# Altium integrated library National Semiconductor Interface.IntLib: 1433 symbols (part 31 of 51)
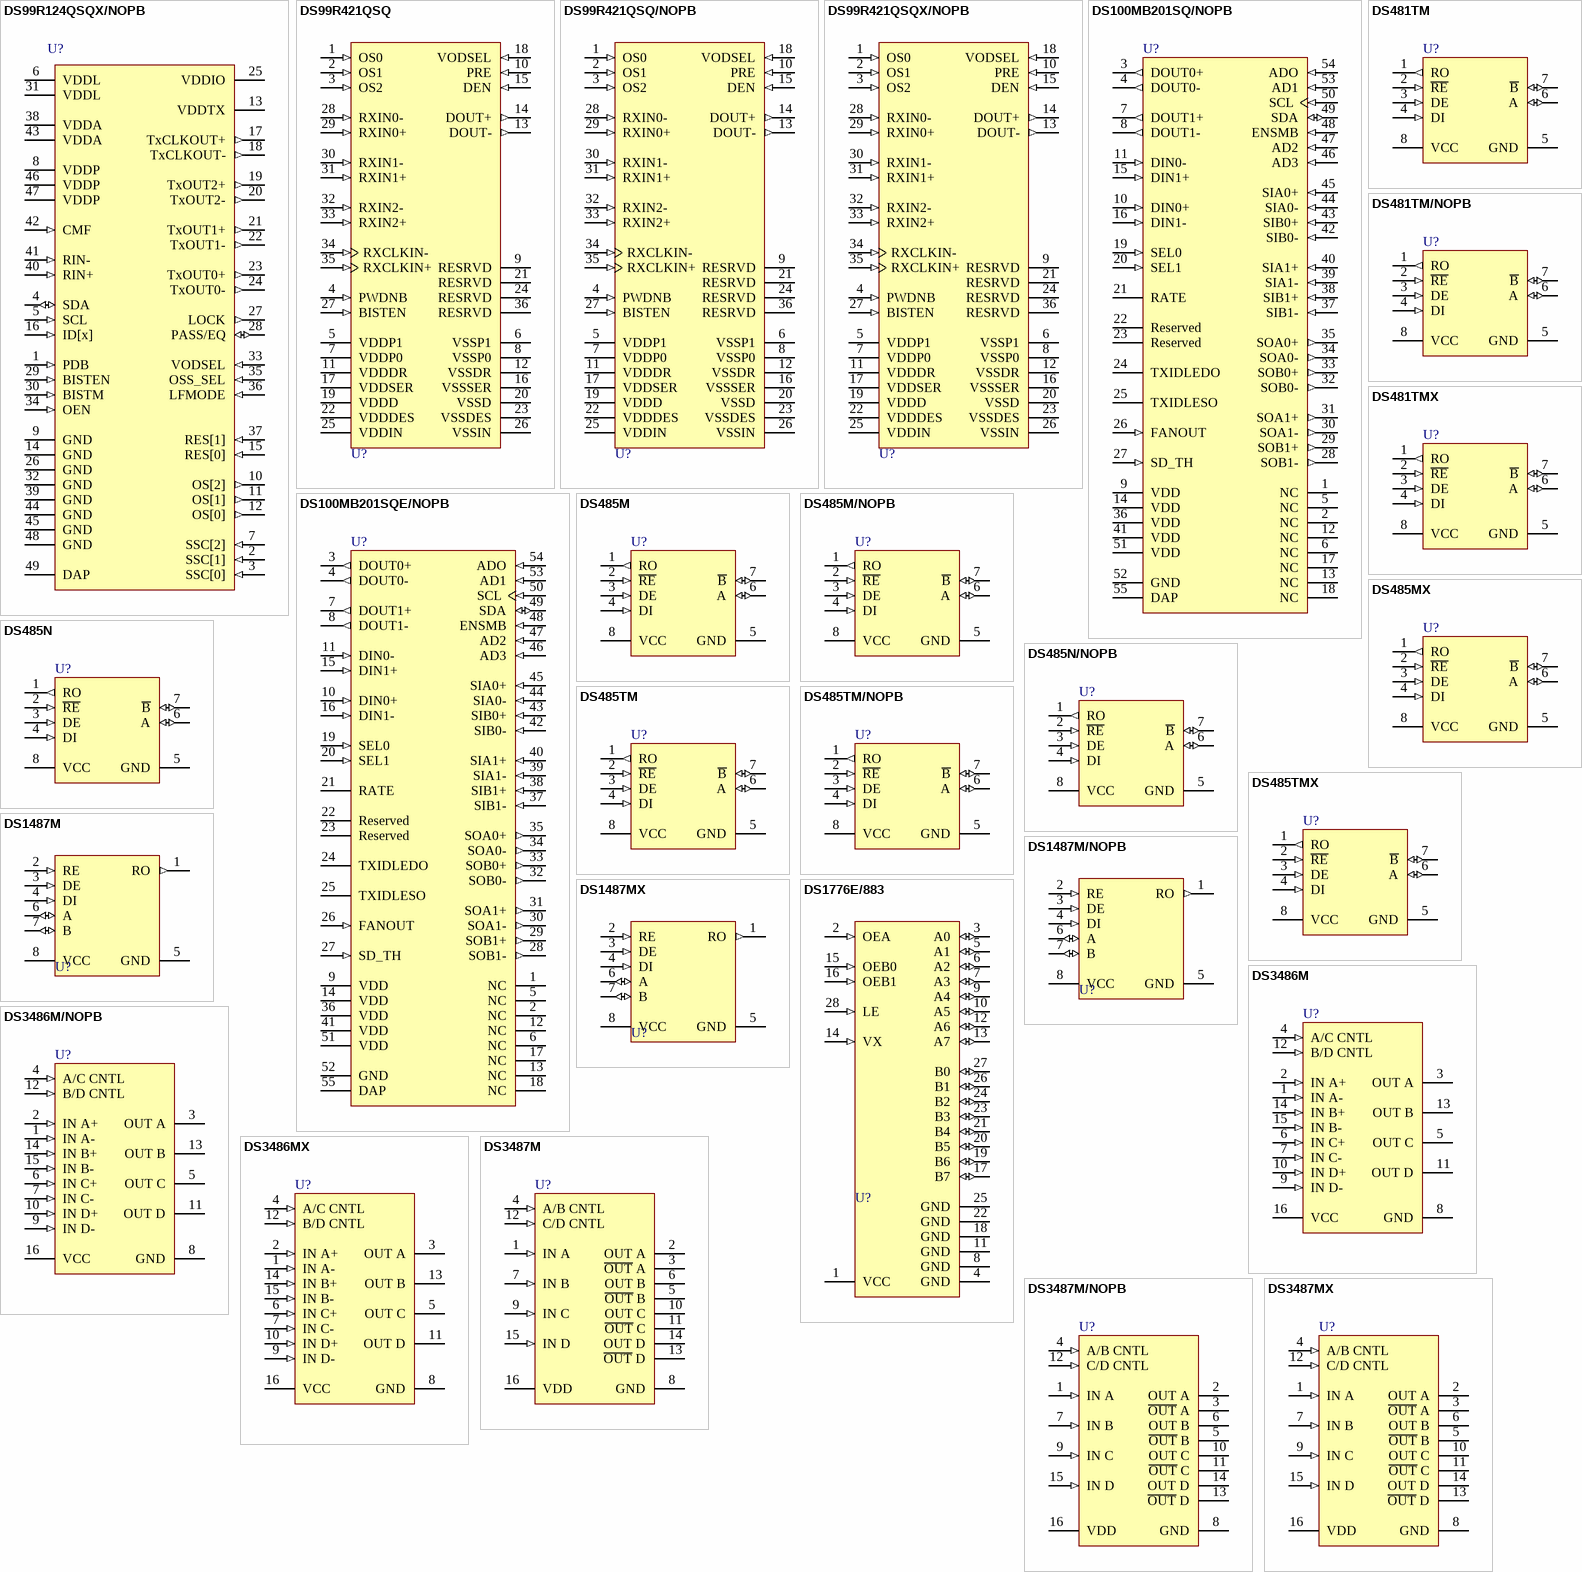
[diagram p154: symbols DS99R124QSQX/NOPB to DS3487MX]

## DS1487MX
designator U?
Low Power RS-485/1/4 Unit Load Multipoint Transceiver, 8-pin Narrow SOIC; PartNumber: DS1487MX; Manufacturer: National Semiconductor; PackageTopMarking: NSZXTT*DS148*7M; PowerWise: N; CompType: Interface IC; High-Reliability: Y; DatasheetVersion: Jul-1998; PackageVersion: revM, May-2009; PackageReference: M08A; PackageDescription: SOIC Narrow, 4.9 x 3.9 x 1.45mm, 8 Lead, 1.27mm Pitch; RoHS: N; PinCount: 8; Code_JEDEC: MS-012-AA; Code_IPC: SOIC127P600-8; ComponentLink1Description: Manufacturer URL; ComponentLink1URL: http://www.national.com/; ComponentLink2Description: DS1487 Datasheet; ComponentLink2URL: http://www.national.com/ds/DS/DS1487.pdf; ComponentLink3Description: DS1487 Web Page; ComponentLink3URL: http://www.national.com/pf/DS/DS1487.html; ComponentLink4Description: M08A Package Page; ComponentLink4URL: http://www.national.com/packaging/folders/m08a.html
footprint M08A_N (SOIC, 8-Leads, Body 4.9x3.9mm, Pitch 1.27mm, IPC Medium Density)
footprint M08A_L (SOIC, 8-Leads, Body 4.9x3.9mm, Pitch 1.27mm, IPC High Density)
footprint M08A_M (SOIC, 8-Leads, Body 4.9x3.9mm, Pitch 1.27mm, IPC Low Density)
pins: 1 RO (out), 2 RE (in), 3 DE (in), 4 DI (in), 5 GND (power), 6 A (io), 7 B (io), 8 VCC (power)

## DS1776E/883
designator U?
Pi-Bus Transceiver, 28-pin LCC; PartNumber: DS1776E/883; Manufacturer: National Semiconductor; PackageTopMarking: NSZSSXXYYA*DS1776E*/883 Q*5962-*9231701M3A; PowerWise: N; CompType: Interface IC; High-Reliability: Y; DatasheetVersion: Jan-1996; PackageVersion: revG, Apr-2004; PackageReference: E28A; PackageDescription: Leadless Chip Carrier, .450 x .450 x .069in Body, Type C, 28 Terminal; RoHS: N; PinCount: 28; Code_JEDEC: MS-004-CC; ComponentLink1Description: Manufacturer URL; ComponentLink1URL: http://www.national.com/; ComponentLink2Description: DS1776 Datasheet; ComponentLink2URL: http://www.national.com/ds/DS/DS1776.pdf; ComponentLink3Description: DS1776 Web Page; ComponentLink3URL: http://www.national.com/pf/DS/DS1776.html; ComponentLink4Description: E28A Package Page; ComponentLink4URL: http://www.national.com/packaging/folders/e28a.html
footprint E28A_N (Leadless Chip Carrier, 28-Leads, Body 11.4x11.4mm, Pitch 1.27mm, IPC Medium Density)
footprint E28A_L (Leadless Chip Carrier, 28-Leads, Body 11.4x11.4mm, Pitch 1.27mm, IPC High Density)
footprint E28A_M (Leadless Chip Carrier, 28-Leads, Body 11.4x11.4mm, Pitch 1.27mm, IPC Low Density)
pins: 1 VCC (power), 2 OEA (in), 3 A0 (io), 4 GND (power), 5 A1 (io), 6 A2 (io), 7 A3 (io), 8 GND (power), 9 A4 (io), 10 A5 (io), 11 GND (power), 12 A6 (io), 13 A7 (io), 14 VX (in), 15 OEB0 (in), 16 OEB1 (in), 17 B7 (io), 18 GND (power), 19 B6 (io), 20 B5 (io), 21 B4 (io), 22 GND (power), 23 B3 (io), 24 B2 (io), 25 GND (power), 26 B1 (io), 27 B0 (io), 28 LE (in)

## DS3486M
designator U?
Quad RS-422, RS-423 Line Receiver, 16-pin Narrow SOIC; PartNumber: DS3486M; Manufacturer: National Semiconductor; PackageTopMarking: NSUZXYTTE#*DS3486M; PowerWise: N; CompType: Interface IC; High-Reliability: Y; DatasheetVersion: Apr-2007; PackageVersion: revJ, Aug-1995; PackageReference: M16A; PackageDescription: Molded Package, SO, .150in Wide, 16 Lead; RoHS: N; PinCount: 16; Code_JEDEC: MS-012-AC; Code_IPC: SOIC127P600-16; ComponentLink1Description: Manufacturer URL; ComponentLink1URL: http://www.national.com/; ComponentLink2Description: DS3486 Datasheet; ComponentLink2URL: http://www.national.com/ds/DS/DS3486.pdf; ComponentLink3Description: DS3486 Web Page; ComponentLink3URL: http://www.national.com/pf/DS/DS3486.html; ComponentLink4Description: M16A Package Page; ComponentLink4URL: http://www.national.com/packaging/folders/m16a.html
footprint M16A_N (SOIC, 16-Leads, Body 9.9x3.9mm, Pitch 1.27mm, IPC Medium Density)
footprint M16A_L (SOIC, 16-Leads, Body 9.9x3.9mm, Pitch 1.27mm, IPC High Density)
footprint M16A_M (SOIC, 16-Leads, Body 9.9x3.9mm, Pitch 1.27mm, IPC Low Density)
pins: 1 IN A- (in), 2 IN A+ (in), 3 OUT A (hiz), 4 A/C CNTL (in), 5 OUT C (hiz), 6 IN C+ (in), 7 IN C- (in), 8 GND (power), 9 IN D- (in), 10 IN D+ (in), 11 OUT D (hiz), 12 B/D CNTL (in), 13 OUT B (hiz), 14 IN B+ (in), 15 IN B- (in), 16 VCC (power)

## DS3486M/NOPB
designator U?
Quad RS-422, RS-423 Line Receiver, 16-pin Narrow SOIC, Pb-Free; PartNumber: DS3486M/NOPB; Manufacturer: National Semiconductor; PackageTopMarking: NSUZXYTTE#*DS3486M; PowerWise: N; CompType: Interface IC; High-Reliability: Y; DatasheetVersion: Apr-2007; PackageVersion: revJ, Aug-1995; PackageReference: M16A; PackageDescription: Molded Package, SO, .150in Wide, 16 Lead; RoHS: Y; PinCount: 16; Code_JEDEC: MS-012-AC; Code_IPC: SOIC127P600-16; ComponentLink1Description: Manufacturer URL; ComponentLink1URL: http://www.national.com/; ComponentLink2Description: DS3486 Datasheet; ComponentLink2URL: http://www.national.com/ds/DS/DS3486.pdf; ComponentLink3Description: DS3486 Web Page; ComponentLink3URL: http://www.national.com/pf/DS/DS3486.html; ComponentLink4Description: M16A Package Page; ComponentLink4URL: http://www.national.com/packaging/folders/m16a.html
footprint M16A_N (SOIC, 16-Leads, Body 9.9x3.9mm, Pitch 1.27mm, IPC Medium Density)
footprint M16A_L (SOIC, 16-Leads, Body 9.9x3.9mm, Pitch 1.27mm, IPC High Density)
footprint M16A_M (SOIC, 16-Leads, Body 9.9x3.9mm, Pitch 1.27mm, IPC Low Density)
pins: 1 IN A- (in), 2 IN A+ (in), 3 OUT A (hiz), 4 A/C CNTL (in), 5 OUT C (hiz), 6 IN C+ (in), 7 IN C- (in), 8 GND (power), 9 IN D- (in), 10 IN D+ (in), 11 OUT D (hiz), 12 B/D CNTL (in), 13 OUT B (hiz), 14 IN B+ (in), 15 IN B- (in), 16 VCC (power)

## DS3486MX
designator U?
Quad RS-422, RS-423 Line Receiver, 16-pin Narrow SOIC; PartNumber: DS3486MX; Manufacturer: National Semiconductor; PackageTopMarking: NSUZXYTTE#*DS3486M; PowerWise: N; CompType: Interface IC; High-Reliability: Y; DatasheetVersion: Apr-2007; PackageVersion: revJ, Aug-1995; PackageReference: M16A; PackageDescription: Molded Package, SO, .150in Wide, 16 Lead; RoHS: N; PinCount: 16; Code_JEDEC: MS-012-AC; Code_IPC: SOIC127P600-16; ComponentLink1Description: Manufacturer URL; ComponentLink1URL: http://www.national.com/; ComponentLink2Description: DS3486 Datasheet; ComponentLink2URL: http://www.national.com/ds/DS/DS3486.pdf; ComponentLink3Description: DS3486 Web Page; ComponentLink3URL: http://www.national.com/pf/DS/DS3486.html; ComponentLink4Description: M16A Package Page; ComponentLink4URL: http://www.national.com/packaging/folders/m16a.html
footprint M16A_N (SOIC, 16-Leads, Body 9.9x3.9mm, Pitch 1.27mm, IPC Medium Density)
footprint M16A_L (SOIC, 16-Leads, Body 9.9x3.9mm, Pitch 1.27mm, IPC High Density)
footprint M16A_M (SOIC, 16-Leads, Body 9.9x3.9mm, Pitch 1.27mm, IPC Low Density)
pins: 1 IN A- (in), 2 IN A+ (in), 3 OUT A (hiz), 4 A/C CNTL (in), 5 OUT C (hiz), 6 IN C+ (in), 7 IN C- (in), 8 GND (power), 9 IN D- (in), 10 IN D+ (in), 11 OUT D (hiz), 12 B/D CNTL (in), 13 OUT B (hiz), 14 IN B+ (in), 15 IN B- (in), 16 VCC (power)

## DS3487M
designator U?
Quad Tri-State Line Driver, 16-pin Narrow SOIC; PartNumber: DS3487M; Manufacturer: National Semiconductor; PackageTopMarking: NSUZXYTTE#*DS3487M; PowerWise: N; CompType: Interface IC; High-Reliability: Y; DatasheetVersion: May-1998; PackageVersion: revJ, Aug-1995; PackageReference: M16A; PackageDescription: Molded Package, SO, .150in Wide, 16 Lead; RoHS: N; PinCount: 16; Code_JEDEC: MS-012-AC; Code_IPC: SOIC127P600-16; ComponentLink1Description: Manufacturer URL; ComponentLink1URL: http://www.national.com/; ComponentLink2Description: DS3487 Datasheet; ComponentLink2URL: http://www.national.com/ds/DS/DS3487.pdf; ComponentLink3Description: DS3487 Web Page; ComponentLink3URL: http://www.national.com/pf/DS/DS3487.html; ComponentLink4Description: M16A Package Page; ComponentLink4URL: http://www.national.com/packaging/folders/m16a.html
footprint M16A_N (SOIC, 16-Leads, Body 9.9x3.9mm, Pitch 1.27mm, IPC Medium Density)
footprint M16A_L (SOIC, 16-Leads, Body 9.9x3.9mm, Pitch 1.27mm, IPC High Density)
footprint M16A_M (SOIC, 16-Leads, Body 9.9x3.9mm, Pitch 1.27mm, IPC Low Density)
pins: 1 IN A (in), 2 OUT A (hiz), 3 ~{OUT} A (hiz), 4 A/B CNTL (in), 5 ~{OUT} B (hiz), 6 OUT B (hiz), 7 IN B (in), 8 GND (power), 9 IN C (in), 10 OUT C (hiz), 11 ~{OUT} C (hiz), 12 C/D CNTL (in), 13 ~{OUT} D (hiz), 14 OUT D (hiz), 15 IN D (in), 16 VDD (power)

## DS3487M/NOPB
designator U?
Quad Tri-State Line Driver, 16-pin Narrow SOIC, Pb-Free; PartNumber: DS3487M/NOPB; Manufacturer: National Semiconductor; PackageTopMarking: NSUZXYTTE#*DS3487M; PowerWise: N; CompType: Interface IC; High-Reliability: Y; DatasheetVersion: May-1998; PackageVersion: revJ, Aug-1995; PackageReference: M16A; PackageDescription: Molded Package, SO, .150in Wide, 16 Lead; RoHS: Y; PinCount: 16; Code_JEDEC: MS-012-AC; Code_IPC: SOIC127P600-16; ComponentLink1Description: Manufacturer URL; ComponentLink1URL: http://www.national.com/; ComponentLink2Description: DS3487 Datasheet; ComponentLink2URL: http://www.national.com/ds/DS/DS3487.pdf; ComponentLink3Description: DS3487 Web Page; ComponentLink3URL: http://www.national.com/pf/DS/DS3487.html; ComponentLink4Description: M16A Package Page; ComponentLink4URL: http://www.national.com/packaging/folders/m16a.html
footprint M16A_N (SOIC, 16-Leads, Body 9.9x3.9mm, Pitch 1.27mm, IPC Medium Density)
footprint M16A_L (SOIC, 16-Leads, Body 9.9x3.9mm, Pitch 1.27mm, IPC High Density)
footprint M16A_M (SOIC, 16-Leads, Body 9.9x3.9mm, Pitch 1.27mm, IPC Low Density)
pins: 1 IN A (in), 2 OUT A (hiz), 3 ~{OUT} A (hiz), 4 A/B CNTL (in), 5 ~{OUT} B (hiz), 6 OUT B (hiz), 7 IN B (in), 8 GND (power), 9 IN C (in), 10 OUT C (hiz), 11 ~{OUT} C (hiz), 12 C/D CNTL (in), 13 ~{OUT} D (hiz), 14 OUT D (hiz), 15 IN D (in), 16 VDD (power)

## DS3487MX
designator U?
Quad Tri-State Line Driver, 16-pin Narrow SOIC; PartNumber: DS3487MX; Manufacturer: National Semiconductor; PackageTopMarking: NSUZXYTTE#*DS3487M; PowerWise: N; CompType: Interface IC; High-Reliability: Y; DatasheetVersion: May-1998; PackageVersion: revJ, Aug-1995; PackageReference: M16A; PackageDescription: Molded Package, SO, .150in Wide, 16 Lead; RoHS: N; PinCount: 16; Code_JEDEC: MS-012-AC; Code_IPC: SOIC127P600-16; ComponentLink1Description: Manufacturer URL; ComponentLink1URL: http://www.national.com/; ComponentLink2Description: DS3487 Datasheet; ComponentLink2URL: http://www.national.com/ds/DS/DS3487.pdf; ComponentLink3Description: DS3487 Web Page; ComponentLink3URL: http://www.national.com/pf/DS/DS3487.html; ComponentLink4Description: M16A Package Page; ComponentLink4URL: http://www.national.com/packaging/folders/m16a.html
footprint M16A_N (SOIC, 16-Leads, Body 9.9x3.9mm, Pitch 1.27mm, IPC Medium Density)
footprint M16A_L (SOIC, 16-Leads, Body 9.9x3.9mm, Pitch 1.27mm, IPC High Density)
footprint M16A_M (SOIC, 16-Leads, Body 9.9x3.9mm, Pitch 1.27mm, IPC Low Density)
pins: 1 IN A (in), 2 OUT A (hiz), 3 ~{OUT} A (hiz), 4 A/B CNTL (in), 5 ~{OUT} B (hiz), 6 OUT B (hiz), 7 IN B (in), 8 GND (power), 9 IN C (in), 10 OUT C (hiz), 11 ~{OUT} C (hiz), 12 C/D CNTL (in), 13 ~{OUT} D (hiz), 14 OUT D (hiz), 15 IN D (in), 16 VDD (power)

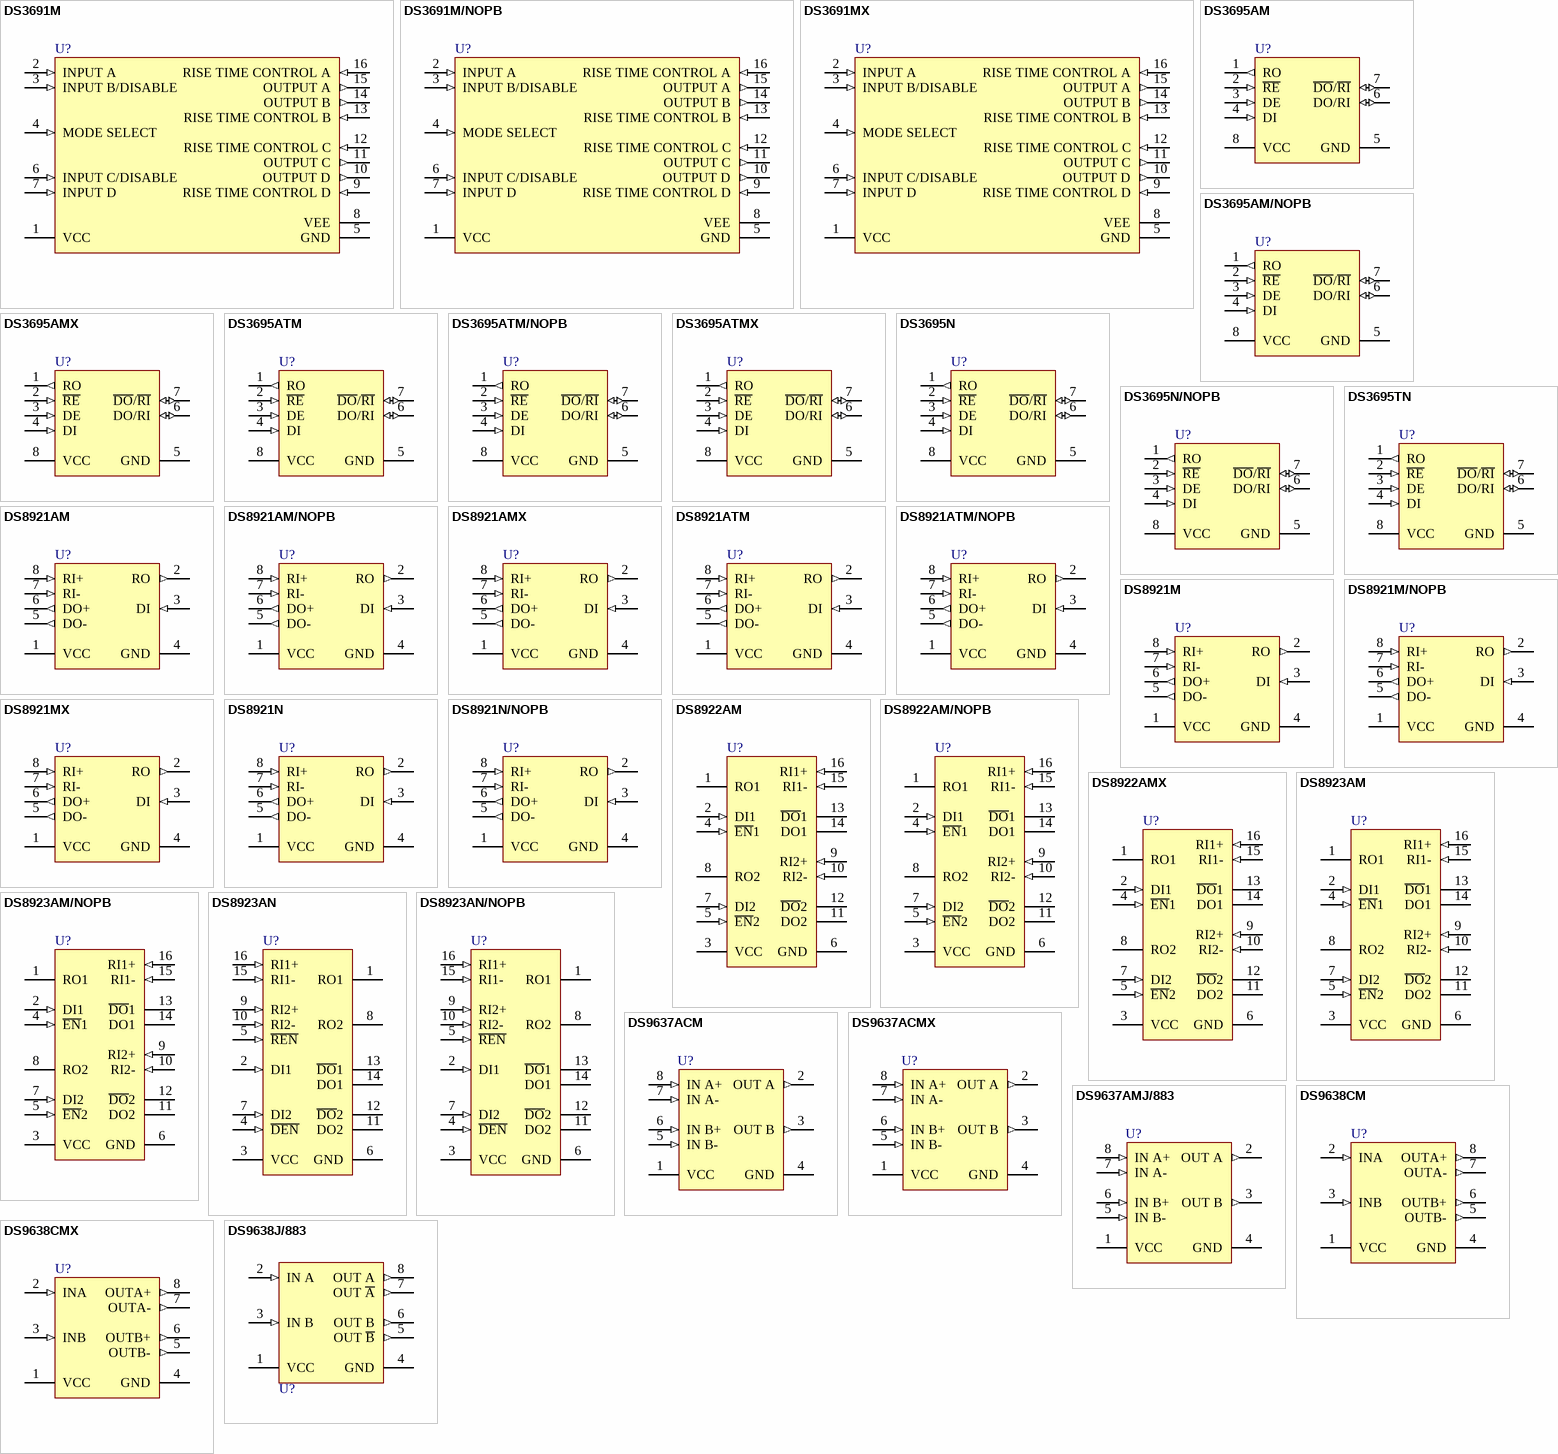
[diagram p80: symbols DS3691M to DS9638J/883]

## DS3691M
designator U?
RS-422/RS-423 Line Drivers With Tri-State Outputs, 16-pin Narrow SOIC; PartNumber: DS3691M; Manufacturer: National Semiconductor; PackageTopMarking: NSUZXYTTE#*DS3691M*AM26LS30SC; PowerWise: N; CompType: Interface IC; High-Reliability: Y; DatasheetVersion: Jul-1998; PackageVersion: revJ, Aug-1995; PackageReference: M16A; PackageDescription: Molded Package, SO, .150in Wide, 16 Lead; RoHS: N; PinCount: 16; Code_JEDEC: MS-012-AC; Code_IPC: SOIC127P600-16; ComponentLink1Description: Manufacturer URL; ComponentLink1URL: http://www.national.com/; ComponentLink2Description: DS3691 Datasheet; ComponentLink2URL: http://www.national.com/ds/DS/DS3691.pdf; ComponentLink3Description: DS3691 Web Page; ComponentLink3URL: http://www.national.com/pf/DS/DS3691.html; ComponentLink4Description: M16A Package Page; ComponentLink4URL: http://www.national.com/packaging/folders/m16a.html
footprint M16A_N (SOIC, 16-Leads, Body 9.9x3.9mm, Pitch 1.27mm, IPC Medium Density)
footprint M16A_L (SOIC, 16-Leads, Body 9.9x3.9mm, Pitch 1.27mm, IPC High Density)
footprint M16A_M (SOIC, 16-Leads, Body 9.9x3.9mm, Pitch 1.27mm, IPC Low Density)
pins: 1 VCC (power), 2 INPUT A (in), 3 INPUT B/DISABLE (in), 4 MODE SELECT (in), 5 GND (power), 6 INPUT C/DISABLE (in), 7 INPUT D (in), 8 VEE (power), 9 RISE TIME CONTROL D (in), 10 OUTPUT D (out), 11 OUTPUT C (out), 12 RISE TIME CONTROL C (in), 13 RISE TIME CONTROL B (in), 14 OUTPUT B (out), 15 OUTPUT A (out), 16 RISE TIME CONTROL A (in)

## DS3691M/NOPB
designator U?
RS-422/RS-423 Line Drivers With Tri-State Outputs, 16-pin Narrow SOIC, Pb-Free; PartNumber: DS3691M/NOPB; Manufacturer: National Semiconductor; PackageTopMarking: NSUZXYTTE#*DS3691M*AM26LS30SC; PowerWise: N; CompType: Interface IC; High-Reliability: Y; DatasheetVersion: Jul-1998; PackageVersion: revJ, Aug-1995; PackageReference: M16A; PackageDescription: Molded Package, SO, .150in Wide, 16 Lead; RoHS: Y; PinCount: 16; Code_JEDEC: MS-012-AC; Code_IPC: SOIC127P600-16; ComponentLink1Description: Manufacturer URL; ComponentLink1URL: http://www.national.com/; ComponentLink2Description: DS3691 Datasheet; ComponentLink2URL: http://www.national.com/ds/DS/DS3691.pdf; ComponentLink3Description: DS3691 Web Page; ComponentLink3URL: http://www.national.com/pf/DS/DS3691.html; ComponentLink4Description: M16A Package Page; ComponentLink4URL: http://www.national.com/packaging/folders/m16a.html
footprint M16A_N (SOIC, 16-Leads, Body 9.9x3.9mm, Pitch 1.27mm, IPC Medium Density)
footprint M16A_L (SOIC, 16-Leads, Body 9.9x3.9mm, Pitch 1.27mm, IPC High Density)
footprint M16A_M (SOIC, 16-Leads, Body 9.9x3.9mm, Pitch 1.27mm, IPC Low Density)
pins: 1 VCC (power), 2 INPUT A (in), 3 INPUT B/DISABLE (in), 4 MODE SELECT (in), 5 GND (power), 6 INPUT C/DISABLE (in), 7 INPUT D (in), 8 VEE (power), 9 RISE TIME CONTROL D (in), 10 OUTPUT D (out), 11 OUTPUT C (out), 12 RISE TIME CONTROL C (in), 13 RISE TIME CONTROL B (in), 14 OUTPUT B (out), 15 OUTPUT A (out), 16 RISE TIME CONTROL A (in)

## DS3691MX
designator U?
RS-422/RS-423 Line Drivers With Tri-State Outputs, 16-pin Narrow SOIC; PartNumber: DS3691MX; Manufacturer: National Semiconductor; PackageTopMarking: NSUZXYTTE#*DS3691M*AM26LS30SC; PowerWise: N; CompType: Interface IC; High-Reliability: Y; DatasheetVersion: Jul-1998; PackageVersion: revJ, Aug-1995; PackageReference: M16A; PackageDescription: Molded Package, SO, .150in Wide, 16 Lead; RoHS: N; PinCount: 16; Code_JEDEC: MS-012-AC; Code_IPC: SOIC127P600-16; ComponentLink1Description: Manufacturer URL; ComponentLink1URL: http://www.national.com/; ComponentLink2Description: DS3691 Datasheet; ComponentLink2URL: http://www.national.com/ds/DS/DS3691.pdf; ComponentLink3Description: DS3691 Web Page; ComponentLink3URL: http://www.national.com/pf/DS/DS3691.html; ComponentLink4Description: M16A Package Page; ComponentLink4URL: http://www.national.com/packaging/folders/m16a.html
footprint M16A_N (SOIC, 16-Leads, Body 9.9x3.9mm, Pitch 1.27mm, IPC Medium Density)
footprint M16A_L (SOIC, 16-Leads, Body 9.9x3.9mm, Pitch 1.27mm, IPC High Density)
footprint M16A_M (SOIC, 16-Leads, Body 9.9x3.9mm, Pitch 1.27mm, IPC Low Density)
pins: 1 VCC (power), 2 INPUT A (in), 3 INPUT B/DISABLE (in), 4 MODE SELECT (in), 5 GND (power), 6 INPUT C/DISABLE (in), 7 INPUT D (in), 8 VEE (power), 9 RISE TIME CONTROL D (in), 10 OUTPUT D (out), 11 OUTPUT C (out), 12 RISE TIME CONTROL C (in), 13 RISE TIME CONTROL B (in), 14 OUTPUT B (out), 15 OUTPUT A (out), 16 RISE TIME CONTROL A (in)

## DS3695AM
designator U?
Multipoint RS485/RS422 Transceiver, 8-pin Narrow SOIC; PartNumber: DS3695AM; Manufacturer: National Semiconductor; PackageTopMarking: NSZXTT*DS36*95AM; PowerWise: N; CompType: Interface IC; High-Reliability: Y; DatasheetVersion: Feb-1996; PackageVersion: revM, May-2009; PackageReference: M08A; PackageDescription: SOIC Narrow, 4.9 x 3.9 x 1.45mm, 8 Lead, 1.27mm Pitch; RoHS: N; PinCount: 8; Code_JEDEC: MS-012-AA; Code_IPC: SOIC127P600-8; ComponentLink1Description: Manufacturer URL; ComponentLink1URL: http://www.national.com/; ComponentLink2Description: DS3695A Datasheet; ComponentLink2URL: http://www.national.com/ds/DS/DS3695A.pdf; ComponentLink3Description: DS3695A Web Page; ComponentLink3URL: http://www.national.com/pf/DS/DS3695A.html; ComponentLink4Description: M08A Package Page; ComponentLink4URL: http://www.national.com/packaging/folders/m08a.html
footprint M08A_N (SOIC, 8-Leads, Body 4.9x3.9mm, Pitch 1.27mm, IPC Medium Density)
footprint M08A_L (SOIC, 8-Leads, Body 4.9x3.9mm, Pitch 1.27mm, IPC High Density)
footprint M08A_M (SOIC, 8-Leads, Body 4.9x3.9mm, Pitch 1.27mm, IPC Low Density)
pins: 1 RO (out), 2 ~{RE} (in), 3 DE (in), 4 DI (in), 5 GND (power), 6 DO/RI (io), 7 ~{DO}/~{RI} (io), 8 VCC (power)

## DS3695AM/NOPB
designator U?
Multipoint RS485/RS422 Transceivers, 8-pin Narrow SOIC, Pb-Free; PartNumber: DS3695AM/NOPB; Manufacturer: National Semiconductor; PackageTopMarking: NSZXTT*DS36*95AM; PowerWise: N; CompType: Interface IC; High-Reliability: Y; DatasheetVersion: Feb-1996; PackageVersion: revM, May-2009; PackageReference: M08A; PackageDescription: SOIC Narrow, 4.9 x 3.9 x 1.45mm, 8 Lead, 1.27mm Pitch; RoHS: Y; PinCount: 8; Code_JEDEC: MS-012-AA; Code_IPC: SOIC127P600-8; ComponentLink1Description: Manufacturer URL; ComponentLink1URL: http://www.national.com/; ComponentLink2Description: DS3695A Datasheet; ComponentLink2URL: http://www.national.com/ds/DS/DS3695A.pdf; ComponentLink3Description: DS3695A Web Page; ComponentLink3URL: http://www.national.com/pf/DS/DS3695A.html; ComponentLink4Description: M08A Package Page; ComponentLink4URL: http://www.national.com/packaging/folders/m08a.html
footprint M08A_N (SOIC, 8-Leads, Body 4.9x3.9mm, Pitch 1.27mm, IPC Medium Density)
footprint M08A_L (SOIC, 8-Leads, Body 4.9x3.9mm, Pitch 1.27mm, IPC High Density)
footprint M08A_M (SOIC, 8-Leads, Body 4.9x3.9mm, Pitch 1.27mm, IPC Low Density)
pins: 1 RO (out), 2 ~{RE} (in), 3 DE (in), 4 DI (in), 5 GND (power), 6 DO/RI (io), 7 ~{DO}/~{RI} (io), 8 VCC (power)

## DS3695AMX
designator U?
Multipoint RS485/RS422 Transceivers, 8-pin Narrow SOIC; PartNumber: DS3695AMX; Manufacturer: National Semiconductor; PackageTopMarking: NSZXTT*DS36*95AM; PowerWise: N; CompType: Interface IC; High-Reliability: Y; DatasheetVersion: Feb-1996; PackageVersion: revM, May-2009; PackageReference: M08A; PackageDescription: SOIC Narrow, 4.9 x 3.9 x 1.45mm, 8 Lead, 1.27mm Pitch; RoHS: N; PinCount: 8; Code_JEDEC: MS-012-AA; Code_IPC: SOIC127P600-8; ComponentLink1Description: Manufacturer URL; ComponentLink1URL: http://www.national.com/; ComponentLink2Description: DS3695A Datasheet; ComponentLink2URL: http://www.national.com/ds/DS/DS3695A.pdf; ComponentLink3Description: DS3695A Web Page; ComponentLink3URL: http://www.national.com/pf/DS/DS3695A.html; ComponentLink4Description: M08A Package Page; ComponentLink4URL: http://www.national.com/packaging/folders/m08a.html
footprint M08A_N (SOIC, 8-Leads, Body 4.9x3.9mm, Pitch 1.27mm, IPC Medium Density)
footprint M08A_L (SOIC, 8-Leads, Body 4.9x3.9mm, Pitch 1.27mm, IPC High Density)
footprint M08A_M (SOIC, 8-Leads, Body 4.9x3.9mm, Pitch 1.27mm, IPC Low Density)
pins: 1 RO (out), 2 ~{RE} (in), 3 DE (in), 4 DI (in), 5 GND (power), 6 DO/RI (io), 7 ~{DO}/~{RI} (io), 8 VCC (power)

## DS3695ATM
designator U?
Multipoint RS485/RS422 Transceiver, 8-pin Narrow SOIC; PartNumber: DS3695ATM; Manufacturer: National Semiconductor; PackageTopMarking: NSZXTT*DS369*5ATM; PowerWise: N; CompType: Interface IC; High-Reliability: Y; DatasheetVersion: Feb-1996; PackageVersion: revM, May-2009; PackageReference: M08A; PackageDescription: SOIC Narrow, 4.9 x 3.9 x 1.45mm, 8 Lead, 1.27mm Pitch; RoHS: N; PinCount: 8; Code_JEDEC: MS-012-AA; Code_IPC: SOIC127P600-8; ComponentLink1Description: Manufacturer URL; ComponentLink1URL: http://www.national.com/; ComponentLink2Description: DS3695AT Datasheet; ComponentLink2URL: http://www.national.com/ds/DS/DS3695AT.pdf; ComponentLink3Description: DS3695AT Web Page; ComponentLink3URL: http://www.national.com/pf/DS/DS3695AT.html; ComponentLink4Description: M08A Package Page; ComponentLink4URL: http://www.national.com/packaging/folders/m08a.html
footprint M08A_N (SOIC, 8-Leads, Body 4.9x3.9mm, Pitch 1.27mm, IPC Medium Density)
footprint M08A_L (SOIC, 8-Leads, Body 4.9x3.9mm, Pitch 1.27mm, IPC High Density)
footprint M08A_M (SOIC, 8-Leads, Body 4.9x3.9mm, Pitch 1.27mm, IPC Low Density)
pins: 1 RO (out), 2 ~{RE} (in), 3 DE (in), 4 DI (in), 5 GND (power), 6 DO/RI (io), 7 ~{DO}/~{RI} (io), 8 VCC (power)

## DS3695ATM/NOPB
designator U?
Multipoint RS485/RS422 Transceivers, 8-pin Narrow SOIC, Pb-Free; PartNumber: DS3695ATM/NOPB; Manufacturer: National Semiconductor; PackageTopMarking: NSZXTT*DS369*5ATM; PowerWise: N; CompType: Interface IC; High-Reliability: Y; DatasheetVersion: Feb-1996; PackageVersion: revM, May-2009; PackageReference: M08A; PackageDescription: SOIC Narrow, 4.9 x 3.9 x 1.45mm, 8 Lead, 1.27mm Pitch; RoHS: Y; PinCount: 8; Code_JEDEC: MS-012-AA; Code_IPC: SOIC127P600-8; ComponentLink1Description: Manufacturer URL; ComponentLink1URL: http://www.national.com/; ComponentLink2Description: DS3695AT Datasheet; ComponentLink2URL: http://www.national.com/ds/DS/DS3695AT.pdf; ComponentLink3Description: DS3695AT Web Page; ComponentLink3URL: http://www.national.com/pf/DS/DS3695AT.html; ComponentLink4Description: M08A Package Page; ComponentLink4URL: http://www.national.com/packaging/folders/m08a.html
footprint M08A_N (SOIC, 8-Leads, Body 4.9x3.9mm, Pitch 1.27mm, IPC Medium Density)
footprint M08A_L (SOIC, 8-Leads, Body 4.9x3.9mm, Pitch 1.27mm, IPC High Density)
footprint M08A_M (SOIC, 8-Leads, Body 4.9x3.9mm, Pitch 1.27mm, IPC Low Density)
pins: 1 RO (out), 2 ~{RE} (in), 3 DE (in), 4 DI (in), 5 GND (power), 6 DO/RI (io), 7 ~{DO}/~{RI} (io), 8 VCC (power)

## DS3695ATMX
designator U?
Multipoint RS485/RS422 Transceivers, 8-pin Narrow SOIC; PartNumber: DS3695ATMX; Manufacturer: National Semiconductor; PackageTopMarking: NSZXTT*DS369*5ATM; PowerWise: N; CompType: Interface IC; High-Reliability: Y; DatasheetVersion: Feb-1996; PackageVersion: revM, May-2009; PackageReference: M08A; PackageDescription: SOIC Narrow, 4.9 x 3.9 x 1.45mm, 8 Lead, 1.27mm Pitch; RoHS: N; PinCount: 8; Code_JEDEC: MS-012-AA; Code_IPC: SOIC127P600-8; ComponentLink1Description: Manufacturer URL; ComponentLink1URL: http://www.national.com/; ComponentLink2Description: DS3695AT Datasheet; ComponentLink2URL: http://www.national.com/ds/DS/DS3695AT.pdf; ComponentLink3Description: DS3695AT Web Page; ComponentLink3URL: http://www.national.com/pf/DS/DS3695AT.html; ComponentLink4Description: M08A Package Page; ComponentLink4URL: http://www.national.com/packaging/folders/m08a.html
footprint M08A_N (SOIC, 8-Leads, Body 4.9x3.9mm, Pitch 1.27mm, IPC Medium Density)
footprint M08A_L (SOIC, 8-Leads, Body 4.9x3.9mm, Pitch 1.27mm, IPC High Density)
footprint M08A_M (SOIC, 8-Leads, Body 4.9x3.9mm, Pitch 1.27mm, IPC Low Density)
pins: 1 RO (out), 2 ~{RE} (in), 3 DE (in), 4 DI (in), 5 GND (power), 6 DO/RI (io), 7 ~{DO}/~{RI} (io), 8 VCC (power)

## DS3695N
designator U?
Multipoint RS485/RS422 Transceiver/Repeater, 8-pin MDIP; PartNumber: DS3695N; Manufacturer: National Semiconductor; PackageTopMarking: NSUZXYTTE#*DS3695N; PowerWise: N; CompType: Interface IC; High-Reliability: Y; DatasheetVersion: May-1998; PackageVersion: revG, May-2006; PackageReference: N08E; PackageDescription: MDIP, .365 x .250 x .130in, 8 Lead, .100in Pitch; RoHS: N; PinCount: 8; Code_JEDEC: MS-001-BA; ComponentLink1Description: Manufacturer URL; ComponentLink1URL: http://www.national.com/; ComponentLink2Description: DS3695 Datasheet; ComponentLink2URL: http://www.national.com/ds/DS/DS3695.pdf; ComponentLink3Description: DS3695 Web Page; ComponentLink3URL: http://www.national.com/pf/DS/DS3695.html; ComponentLink4Description: N08E Package Page; ComponentLink4URL: http://www.national.com/packaging/folders/n08e.html
footprint N08E (DIP, 8-Leads, Row Spacing 7.62mm, Pitch 2.54mm, Body 9.91x6.35mm)
pins: 1 RO (out), 2 ~{RE} (in), 3 DE (in), 4 DI (in), 5 GND (power), 6 DO/RI (io), 7 ~{DO}/~{RI} (io), 8 VCC (power)

## DS3695N/NOPB
designator U?
Multipoint RS-485/RS-422 Transceivers, 8-pin MDIP, Pb-Free; PartNumber: DS3695N/NOPB; Manufacturer: National Semiconductor; PackageTopMarking: NSUZXYTTE#*DS3695N; PowerWise: N; CompType: Interface IC; High-Reliability: Y; DatasheetVersion: May-1998; PackageVersion: revG, May-2006; PackageReference: N08E; PackageDescription: MDIP, .365 x .250 x .130in, 8 Lead, .100in Pitch; RoHS: Y; PinCount: 8; Code_JEDEC: MS-001-BA; ComponentLink1Description: Manufacturer URL; ComponentLink1URL: http://www.national.com/; ComponentLink2Description: DS3695 Datasheet; ComponentLink2URL: http://www.national.com/ds/DS/DS3695.pdf; ComponentLink3Description: DS3695 Web Page; ComponentLink3URL: http://www.national.com/pf/DS/DS3695.html; ComponentLink4Description: N08E Package Page; ComponentLink4URL: http://www.national.com/packaging/folders/n08e.html
footprint N08E (DIP, 8-Leads, Row Spacing 7.62mm, Pitch 2.54mm, Body 9.91x6.35mm)
pins: 1 RO (out), 2 ~{RE} (in), 3 DE (in), 4 DI (in), 5 GND (power), 6 DO/RI (io), 7 ~{DO}/~{RI} (io), 8 VCC (power)

## DS3695TN
designator U?
Multipoint RS485/RS422 Transceiver/Repeater, 8-pin MDIP; PartNumber: DS3695TN; Manufacturer: National Semiconductor; PackageTopMarking: NSUZXYTTE#*DS*3695TN; PowerWise: N; CompType: Interface IC; High-Reliability: Y; DatasheetVersion: May-1998; PackageVersion: revG, May-2006; PackageReference: N08E; PackageDescription: MDIP, .365 x .250 x .130in, 8 Lead, .100in Pitch; RoHS: N; PinCount: 8; Code_JEDEC: MS-001-BA; ComponentLink1Description: Manufacturer URL; ComponentLink1URL: http://www.national.com/; ComponentLink2Description: DS3695T Datasheet; ComponentLink2URL: http://www.national.com/ds/DS/DS3695T.pdf; ComponentLink3Description: DS3695T Web Page; ComponentLink3URL: http://www.national.com/pf/DS/DS3695T.html; ComponentLink4Description: N08E Package Page; ComponentLink4URL: http://www.national.com/packaging/folders/n08e.html
footprint N08E (DIP, 8-Leads, Row Spacing 7.62mm, Pitch 2.54mm, Body 9.91x6.35mm)
pins: 1 RO (out), 2 ~{RE} (in), 3 DE (in), 4 DI (in), 5 GND (power), 6 DO/RI (io), 7 ~{DO}/~{RI} (io), 8 VCC (power)

## DS8921AM
designator U?
Differential Line Driver and Receiver Pair, 8-pin Narrow SOIC; PartNumber: DS8921AM; Manufacturer: National Semiconductor; PackageTopMarking: NSZXTT*DS89*21AM; PowerWise: N; CompType: Interface IC; High-Reliability: Y; DatasheetVersion: May-1998; PackageVersion: revM, May-2009; PackageReference: M08A; PackageDescription: SOIC Narrow, 4.9 x 3.9 x 1.45mm, 8 Lead, 1.27mm Pitch; RoHS: N; PinCount: 8; Code_JEDEC: MS-012-AA; Code_IPC: SOIC127P600-8; ComponentLink1Description: Manufacturer URL; ComponentLink1URL: http://www.national.com/; ComponentLink2Description: DS8921A Datasheet; ComponentLink2URL: http://www.national.com/ds/DS/DS8921.pdf; ComponentLink3Description: DS8921A Web Page; ComponentLink3URL: http://www.national.com/pf/DS/DS8921A.html; ComponentLink4Description: M08A Package Page; ComponentLink4URL: http://www.national.com/packaging/folders/m08a.html
footprint M08A_N (SOIC, 8-Leads, Body 4.9x3.9mm, Pitch 1.27mm, IPC Medium Density)
footprint M08A_L (SOIC, 8-Leads, Body 4.9x3.9mm, Pitch 1.27mm, IPC High Density)
footprint M08A_M (SOIC, 8-Leads, Body 4.9x3.9mm, Pitch 1.27mm, IPC Low Density)
pins: 1 VCC (power), 2 RO (out), 3 DI (in), 4 GND (power), 5 DO- (out), 6 DO+ (out), 7 RI- (in), 8 RI+ (in)

## DS8921AM/NOPB
designator U?
Differential Line Drivers and Receiver Pair, 8-pin Narrow SOIC, Pb-Free; PartNumber: DS8921AM/NOPB; Manufacturer: National Semiconductor; PackageTopMarking: NSZXTT*DS89*21AM; PowerWise: N; CompType: Interface IC; High-Reliability: Y; DatasheetVersion: May-1998; PackageVersion: revM, May-2009; PackageReference: M08A; PackageDescription: SOIC Narrow, 4.9 x 3.9 x 1.45mm, 8 Lead, 1.27mm Pitch; RoHS: Y; PinCount: 8; Code_JEDEC: MS-012-AA; Code_IPC: SOIC127P600-8; ComponentLink1Description: Manufacturer URL; ComponentLink1URL: http://www.national.com/; ComponentLink2Description: DS8921A Datasheet; ComponentLink2URL: http://www.national.com/ds/DS/DS8921.pdf; ComponentLink3Description: DS8921A Web Page; ComponentLink3URL: http://www.national.com/pf/DS/DS8921A.html; ComponentLink4Description: M08A Package Page; ComponentLink4URL: http://www.national.com/packaging/folders/m08a.html
footprint M08A_N (SOIC, 8-Leads, Body 4.9x3.9mm, Pitch 1.27mm, IPC Medium Density)
footprint M08A_L (SOIC, 8-Leads, Body 4.9x3.9mm, Pitch 1.27mm, IPC High Density)
footprint M08A_M (SOIC, 8-Leads, Body 4.9x3.9mm, Pitch 1.27mm, IPC Low Density)
pins: 1 VCC (power), 2 RO (out), 3 DI (in), 4 GND (power), 5 DO- (out), 6 DO+ (out), 7 RI- (in), 8 RI+ (in)

## DS8921AMX
designator U?
Differential Line Drivers and Receiver Pair, 8-pin Narrow SOIC; PartNumber: DS8921AMX; Manufacturer: National Semiconductor; PackageTopMarking: NSZXTT*DS89*21AM; PowerWise: N; CompType: Interface IC; High-Reliability: Y; DatasheetVersion: May-1998; PackageVersion: revM, May-2009; PackageReference: M08A; PackageDescription: SOIC Narrow, 4.9 x 3.9 x 1.45mm, 8 Lead, 1.27mm Pitch; RoHS: N; PinCount: 8; Code_JEDEC: MS-012-AA; Code_IPC: SOIC127P600-8; ComponentLink1Description: Manufacturer URL; ComponentLink1URL: http://www.national.com/; ComponentLink2Description: DS8921A Datasheet; ComponentLink2URL: http://www.national.com/ds/DS/DS8921.pdf; ComponentLink3Description: DS8921A Web Page; ComponentLink3URL: http://www.national.com/pf/DS/DS8921A.html; ComponentLink4Description: M08A Package Page; ComponentLink4URL: http://www.national.com/packaging/folders/m08a.html
footprint M08A_N (SOIC, 8-Leads, Body 4.9x3.9mm, Pitch 1.27mm, IPC Medium Density)
footprint M08A_L (SOIC, 8-Leads, Body 4.9x3.9mm, Pitch 1.27mm, IPC High Density)
footprint M08A_M (SOIC, 8-Leads, Body 4.9x3.9mm, Pitch 1.27mm, IPC Low Density)
pins: 1 VCC (power), 2 RO (out), 3 DI (in), 4 GND (power), 5 DO- (out), 6 DO+ (out), 7 RI- (in), 8 RI+ (in)

## DS8921ATM
designator U?
Differential Line Driver and Receiver Pair, 8-pin Narrow SOIC; PartNumber: DS8921ATM; Manufacturer: National Semiconductor; PackageTopMarking: NSZXTT*DS892*1ATM; PowerWise: N; CompType: Interface IC; High-Reliability: Y; DatasheetVersion: May-1998; PackageVersion: revM, May-2009; PackageReference: M08A; PackageDescription: SOIC Narrow, 4.9 x 3.9 x 1.45mm, 8 Lead, 1.27mm Pitch; RoHS: N; PinCount: 8; Code_JEDEC: MS-012-AA; Code_IPC: SOIC127P600-8; ComponentLink1Description: Manufacturer URL; ComponentLink1URL: http://www.national.com/; ComponentLink2Description: DS8921AT Datasheet; ComponentLink2URL: http://www.national.com/ds/DS/DS8921.pdf; ComponentLink3Description: DS8921AT Web Page; ComponentLink3URL: http://www.national.com/pf/DS/DS8921AT.html; ComponentLink4Description: M08A Package Page; ComponentLink4URL: http://www.national.com/packaging/folders/m08a.html
footprint M08A_N (SOIC, 8-Leads, Body 4.9x3.9mm, Pitch 1.27mm, IPC Medium Density)
footprint M08A_L (SOIC, 8-Leads, Body 4.9x3.9mm, Pitch 1.27mm, IPC High Density)
footprint M08A_M (SOIC, 8-Leads, Body 4.9x3.9mm, Pitch 1.27mm, IPC Low Density)
pins: 1 VCC (power), 2 RO (out), 3 DI (in), 4 GND (power), 5 DO- (out), 6 DO+ (out), 7 RI- (in), 8 RI+ (in)

## DS8921ATM/NOPB
designator U?
Differential Line Drivers and Receiver Pair, 8 pin SOIC NARROW; PartNumber: DS8921ATM/NOPB; Manufacturer: National Semiconductor; PackageTopMarking: NSZXTT*DS892*1ATM; PowerWise: N; CompType: Interface IC; High-Reliability: Y; DatasheetVersion: May-1998; PackageVersion: revM, May-2009; PackageReference: M08A; PackageDescription: SOIC Narrow, 4.9 x 3.9 x 1.45mm, 8 Lead, 1.27mm Pitch; RoHS: Y; PinCount: 8; Code_JEDEC: MS-012-AA; Code_IPC: SOIC127P600-8; ComponentLink1Description: Manufacturer URL; ComponentLink1URL: http://www.national.com/; ComponentLink2Description: DS8921AT Datasheet; ComponentLink2URL: http://www.national.com/ds/DS/DS8921.pdf; ComponentLink3Description: DS8921AT Web Page; ComponentLink3URL: http://www.national.com/pf/DS/DS8921AT.html; ComponentLink4Description: M08A Package Page; ComponentLink4URL: http://www.national.com/packaging/folders/m08a.html
footprint M08A_N (SOIC, 8-Leads, Body 4.9x3.9mm, Pitch 1.27mm, IPC Medium Density)
footprint M08A_L (SOIC, 8-Leads, Body 4.9x3.9mm, Pitch 1.27mm, IPC High Density)
footprint M08A_M (SOIC, 8-Leads, Body 4.9x3.9mm, Pitch 1.27mm, IPC Low Density)
pins: 1 VCC (power), 2 RO (out), 3 DI (in), 4 GND (power), 5 DO- (out), 6 DO+ (out), 7 RI- (in), 8 RI+ (in)

## DS8921M
designator U?
Differential Line Driver and Receiver Pair, 8-pin Narrow SOIC; PartNumber: DS8921M; Manufacturer: National Semiconductor; PackageTopMarking: NSZXTT*DS892*1M; PowerWise: N; CompType: Interface IC; High-Reliability: Y; DatasheetVersion: May-1998; PackageVersion: revM, May-2009; PackageReference: M08A; PackageDescription: SOIC Narrow, 4.9 x 3.9 x 1.45mm, 8 Lead, 1.27mm Pitch; RoHS: N; PinCount: 8; Code_JEDEC: MS-012-AA; Code_IPC: SOIC127P600-8; ComponentLink1Description: Manufacturer URL; ComponentLink1URL: http://www.national.com/; ComponentLink2Description: DS8921 Datasheet; ComponentLink2URL: http://www.national.com/ds/DS/DS8921.pdf; ComponentLink3Description: DS8921 Web Page; ComponentLink3URL: http://www.national.com/pf/DS/DS8921.html; ComponentLink4Description: M08A Package Page; ComponentLink4URL: http://www.national.com/packaging/folders/m08a.html
footprint M08A_N (SOIC, 8-Leads, Body 4.9x3.9mm, Pitch 1.27mm, IPC Medium Density)
footprint M08A_L (SOIC, 8-Leads, Body 4.9x3.9mm, Pitch 1.27mm, IPC High Density)
footprint M08A_M (SOIC, 8-Leads, Body 4.9x3.9mm, Pitch 1.27mm, IPC Low Density)
pins: 1 VCC (power), 2 RO (out), 3 DI (in), 4 GND (power), 5 DO- (out), 6 DO+ (out), 7 RI- (in), 8 RI+ (in)

## DS8921M/NOPB
designator U?
Differential Line Drivers and Receiver Pair, 8-pin Narrow SOIC, Pb-Free; PartNumber: DS8921M/NOPB; Manufacturer: National Semiconductor; PackageTopMarking: NSZXTT*DS892*1M; PowerWise: N; CompType: Interface IC; High-Reliability: Y; DatasheetVersion: May-1998; PackageVersion: revM, May-2009; PackageReference: M08A; PackageDescription: SOIC Narrow, 4.9 x 3.9 x 1.45mm, 8 Lead, 1.27mm Pitch; RoHS: Y; PinCount: 8; Code_JEDEC: MS-012-AA; Code_IPC: SOIC127P600-8; ComponentLink1Description: Manufacturer URL; ComponentLink1URL: http://www.national.com/; ComponentLink2Description: DS8921 Datasheet; ComponentLink2URL: http://www.national.com/ds/DS/DS8921.pdf; ComponentLink3Description: DS8921 Web Page; ComponentLink3URL: http://www.national.com/pf/DS/DS8921.html; ComponentLink4Description: M08A Package Page; ComponentLink4URL: http://www.national.com/packaging/folders/m08a.html
footprint M08A_N (SOIC, 8-Leads, Body 4.9x3.9mm, Pitch 1.27mm, IPC Medium Density)
footprint M08A_L (SOIC, 8-Leads, Body 4.9x3.9mm, Pitch 1.27mm, IPC High Density)
footprint M08A_M (SOIC, 8-Leads, Body 4.9x3.9mm, Pitch 1.27mm, IPC Low Density)
pins: 1 VCC (power), 2 RO (out), 3 DI (in), 4 GND (power), 5 DO- (out), 6 DO+ (out), 7 RI- (in), 8 RI+ (in)

## DS8921MX
designator U?
Differential Line Drivers and Receiver Pair, 8-pin Narrow SOIC; PartNumber: DS8921MX; Manufacturer: National Semiconductor; PackageTopMarking: NSZXTT*DS892*1M; PowerWise: N; CompType: Interface IC; High-Reliability: Y; DatasheetVersion: May-1998; PackageVersion: revM, May-2009; PackageReference: M08A; PackageDescription: SOIC Narrow, 4.9 x 3.9 x 1.45mm, 8 Lead, 1.27mm Pitch; RoHS: N; PinCount: 8; Code_JEDEC: MS-012-AA; Code_IPC: SOIC127P600-8; ComponentLink1Description: Manufacturer URL; ComponentLink1URL: http://www.national.com/; ComponentLink2Description: DS8921 Datasheet; ComponentLink2URL: http://www.national.com/ds/DS/DS8921.pdf; ComponentLink3Description: DS8921 Web Page; ComponentLink3URL: http://www.national.com/pf/DS/DS8921.html; ComponentLink4Description: M08A Package Page; ComponentLink4URL: http://www.national.com/packaging/folders/m08a.html
footprint M08A_N (SOIC, 8-Leads, Body 4.9x3.9mm, Pitch 1.27mm, IPC Medium Density)
footprint M08A_L (SOIC, 8-Leads, Body 4.9x3.9mm, Pitch 1.27mm, IPC High Density)
footprint M08A_M (SOIC, 8-Leads, Body 4.9x3.9mm, Pitch 1.27mm, IPC Low Density)
pins: 1 VCC (power), 2 RO (out), 3 DI (in), 4 GND (power), 5 DO- (out), 6 DO+ (out), 7 RI- (in), 8 RI+ (in)

## DS8921N
designator U?
Differential Line Driver and Receiver Pair, 8-pin MDIP; PartNumber: DS8921N; Manufacturer: National Semiconductor; PackageTopMarking: NSUZXYTTE#*DS8921N; PowerWise: N; CompType: Interface IC; High-Reliability: Y; DatasheetVersion: May-1998; PackageVersion: revG, May-2006; PackageReference: N08E; PackageDescription: MDIP, .365 x .250 x .130in, 8 Lead, .100in Pitch; RoHS: N; PinCount: 8; Code_JEDEC: MS-001-BA; ComponentLink1Description: Manufacturer URL; ComponentLink1URL: http://www.national.com/; ComponentLink2Description: DS8921 Datasheet; ComponentLink2URL: http://www.national.com/ds/DS/DS8921.pdf; ComponentLink3Description: DS8921 Web Page; ComponentLink3URL: http://www.national.com/pf/DS/DS8921.html; ComponentLink4Description: N08E Package Page; ComponentLink4URL: http://www.national.com/packaging/folders/n08e.html
footprint N08E (DIP, 8-Leads, Row Spacing 7.62mm, Pitch 2.54mm, Body 9.91x6.35mm)
pins: 1 VCC (power), 2 RO (out), 3 DI (in), 4 GND (power), 5 DO- (out), 6 DO+ (out), 7 RI- (in), 8 RI+ (in)

## DS8921N/NOPB
designator U?
Differential Line Drivers and Receiver Pair, 8-pin MDIP, Pb-Free; PartNumber: DS8921N/NOPB; Manufacturer: National Semiconductor; PackageTopMarking: NSUZXYTTE#*DS8921N; PowerWise: N; CompType: Interface IC; High-Reliability: Y; DatasheetVersion: May-1998; PackageVersion: revG, May-2006; PackageReference: N08E; PackageDescription: MDIP, .365 x .250 x .130in, 8 Lead, .100in Pitch; RoHS: Y; PinCount: 8; Code_JEDEC: MS-001-BA; ComponentLink1Description: Manufacturer URL; ComponentLink1URL: http://www.national.com/; ComponentLink2Description: DS8921 Datasheet; ComponentLink2URL: http://www.national.com/ds/DS/DS8921.pdf; ComponentLink3Description: DS8921 Web Page; ComponentLink3URL: http://www.national.com/pf/DS/DS8921.html; ComponentLink4Description: N08E Package Page; ComponentLink4URL: http://www.national.com/packaging/folders/n08e.html
footprint N08E (DIP, 8-Leads, Row Spacing 7.62mm, Pitch 2.54mm, Body 9.91x6.35mm)
pins: 1 VCC (power), 2 RO (out), 3 DI (in), 4 GND (power), 5 DO- (out), 6 DO+ (out), 7 RI- (in), 8 RI+ (in)

## DS8922AM
designator U?
Tri-State RS-422 Dual Differential Line Driver and Receiver Pairs, 16-pin Narrow SOIC; PartNumber: DS8922AM; Manufacturer: National Semiconductor; PackageTopMarking: NSUZXYTTE#*DS8922AM; PowerWise: N; CompType: Interface IC; High-Reliability: Y; DatasheetVersion: Jul-2004; PackageVersion: revJ, Aug-1995; PackageReference: M16A; PackageDescription: Molded Package, SO, .150in Wide, 16 Lead; RoHS: N; PinCount: 16; Code_JEDEC: MS-012-AC; Code_IPC: SOIC127P600-16; ComponentLink1Description: Manufacturer URL; ComponentLink1URL: http://www.national.com/; ComponentLink2Description: DS8922A Datasheet; ComponentLink2URL: http://www.national.com/ds/DS/DS8922A.pdf; ComponentLink3Description: DS8922A Web Page; ComponentLink3URL: http://www.national.com/pf/DS/DS8922A.html; ComponentLink4Description: M16A Package Page; ComponentLink4URL: http://www.national.com/packaging/folders/m16a.html
footprint M16A_N (SOIC, 16-Leads, Body 9.9x3.9mm, Pitch 1.27mm, IPC Medium Density)
footprint M16A_L (SOIC, 16-Leads, Body 9.9x3.9mm, Pitch 1.27mm, IPC High Density)
footprint M16A_M (SOIC, 16-Leads, Body 9.9x3.9mm, Pitch 1.27mm, IPC Low Density)
pins: 1 RO1 (hiz), 2 DI1 (in), 3 VCC (power), 4 ~{EN}1 (in), 5 ~{EN}2 (in), 6 GND (power), 7 DI2 (in), 8 RO2 (hiz), 9 RI2+ (in), 10 RI2- (in), 11 DO2 (hiz), 12 ~{DO}2 (hiz), 13 ~{DO}1 (hiz), 14 DO1 (hiz), 15 RI1- (in), 16 RI1+ (in)

## DS8922AM/NOPB
designator U?
Tri-State RS-422 Dual Differential Line Drivers and Receiver Pair, 16-pin Narrow SOIC, Pb-Free; PartNumber: DS8922AM/NOPB; Manufacturer: National Semiconductor; PackageTopMarking: NSUZXYTTE#*DS8922AM; PowerWise: N; CompType: Interface IC; High-Reliability: Y; DatasheetVersion: Jul-2004; PackageVersion: revJ, Aug-1995; PackageReference: M16A; PackageDescription: Molded Package, SO, .150in Wide, 16 Lead; RoHS: Y; PinCount: 16; Code_JEDEC: MS-012-AC; Code_IPC: SOIC127P600-16; ComponentLink1Description: Manufacturer URL; ComponentLink1URL: http://www.national.com/; ComponentLink2Description: DS8922A Datasheet; ComponentLink2URL: http://www.national.com/ds/DS/DS8922A.pdf; ComponentLink3Description: DS8922A Web Page; ComponentLink3URL: http://www.national.com/pf/DS/DS8922A.html; ComponentLink4Description: M16A Package Page; ComponentLink4URL: http://www.national.com/packaging/folders/m16a.html
footprint M16A_N (SOIC, 16-Leads, Body 9.9x3.9mm, Pitch 1.27mm, IPC Medium Density)
footprint M16A_L (SOIC, 16-Leads, Body 9.9x3.9mm, Pitch 1.27mm, IPC High Density)
footprint M16A_M (SOIC, 16-Leads, Body 9.9x3.9mm, Pitch 1.27mm, IPC Low Density)
pins: 1 RO1 (hiz), 2 DI1 (in), 3 VCC (power), 4 ~{EN}1 (in), 5 ~{EN}2 (in), 6 GND (power), 7 DI2 (in), 8 RO2 (hiz), 9 RI2+ (in), 10 RI2- (in), 11 DO2 (hiz), 12 ~{DO}2 (hiz), 13 ~{DO}1 (hiz), 14 DO1 (hiz), 15 RI1- (in), 16 RI1+ (in)

## DS8922AMX
designator U?
Tri-State RS-422 Dual Differential Line Drivers and Receiver Pair, 16-pin Narrow SOIC; PartNumber: DS8922AMX; Manufacturer: National Semiconductor; PackageTopMarking: NSUZXYTTE#*DS8922AM; PowerWise: N; CompType: Interface IC; High-Reliability: Y; DatasheetVersion: Jul-2004; PackageVersion: revJ, Aug-1995; PackageReference: M16A; PackageDescription: Molded Package, SO, .150in Wide, 16 Lead; RoHS: N; PinCount: 16; Code_JEDEC: MS-012-AC; Code_IPC: SOIC127P600-16; ComponentLink1Description: Manufacturer URL; ComponentLink1URL: http://www.national.com/; ComponentLink2Description: DS8922A Datasheet; ComponentLink2URL: http://www.national.com/ds/DS/DS8922A.pdf; ComponentLink3Description: DS8922A Web Page; ComponentLink3URL: http://www.national.com/pf/DS/DS8922A.html; ComponentLink4Description: M16A Package Page; ComponentLink4URL: http://www.national.com/packaging/folders/m16a.html
footprint M16A_N (SOIC, 16-Leads, Body 9.9x3.9mm, Pitch 1.27mm, IPC Medium Density)
footprint M16A_L (SOIC, 16-Leads, Body 9.9x3.9mm, Pitch 1.27mm, IPC High Density)
footprint M16A_M (SOIC, 16-Leads, Body 9.9x3.9mm, Pitch 1.27mm, IPC Low Density)
pins: 1 RO1 (hiz), 2 DI1 (in), 3 VCC (power), 4 ~{EN}1 (in), 5 ~{EN}2 (in), 6 GND (power), 7 DI2 (in), 8 RO2 (hiz), 9 RI2+ (in), 10 RI2- (in), 11 DO2 (hiz), 12 ~{DO}2 (hiz), 13 ~{DO}1 (hiz), 14 DO1 (hiz), 15 RI1- (in), 16 RI1+ (in)

## DS8923AM
designator U?
Tri-State RS-422 Dual Differential Line Driver and Receiver Pairs, 16-pin Narrow SOIC; PartNumber: DS8923AM; Manufacturer: National Semiconductor; PackageTopMarking: NSUZXYTTE#*DS8923AM; PowerWise: N; CompType: Interface IC; High-Reliability: Y; DatasheetVersion: Jul-2004; PackageVersion: revJ, Aug-1995; PackageReference: M16A; PackageDescription: Molded Package, SO, .150in Wide, 16 Lead; RoHS: N; PinCount: 16; Code_JEDEC: MS-012-AC; Code_IPC: SOIC127P600-16; ComponentLink1Description: Manufacturer URL; ComponentLink1URL: http://www.national.com/; ComponentLink2Description: DS8923A Datasheet; ComponentLink2URL: http://www.national.com/ds/DS/DS8923A.pdf; ComponentLink3Description: DS8923A Web Page; ComponentLink3URL: http://www.national.com/pf/DS/DS8923A.html; ComponentLink4Description: M16A Package Page; ComponentLink4URL: http://www.national.com/packaging/folders/m16a.html
footprint M16A_N (SOIC, 16-Leads, Body 9.9x3.9mm, Pitch 1.27mm, IPC Medium Density)
footprint M16A_L (SOIC, 16-Leads, Body 9.9x3.9mm, Pitch 1.27mm, IPC High Density)
footprint M16A_M (SOIC, 16-Leads, Body 9.9x3.9mm, Pitch 1.27mm, IPC Low Density)
pins: 1 RO1 (hiz), 2 DI1 (in), 3 VCC (power), 4 ~{EN}1 (in), 5 ~{EN}2 (in), 6 GND (power), 7 DI2 (in), 8 RO2 (hiz), 9 RI2+ (in), 10 RI2- (in), 11 DO2 (hiz), 12 ~{DO}2 (hiz), 13 ~{DO}1 (hiz), 14 DO1 (hiz), 15 RI1- (in), 16 RI1+ (in)

## DS8923AM/NOPB
designator U?
Tri-State RS-422 Dual Differential Line Drivers and Receiver Pair, 16-pin Narrow SOIC, Pb-Free; PartNumber: DS8923AM/NOPB; Manufacturer: National Semiconductor; PackageTopMarking: NSUZXYTTE#*DS8923AM; PowerWise: N; CompType: Interface IC; High-Reliability: Y; DatasheetVersion: Jul-2004; PackageVersion: revJ, Aug-1995; PackageReference: M16A; PackageDescription: Molded Package, SO, .150in Wide, 16 Lead; RoHS: Y; PinCount: 16; Code_JEDEC: MS-012-AC; Code_IPC: SOIC127P600-16; ComponentLink1Description: Manufacturer URL; ComponentLink1URL: http://www.national.com/; ComponentLink2Description: DS8923A Datasheet; ComponentLink2URL: http://www.national.com/ds/DS/DS8923A.pdf; ComponentLink3Description: DS8923A Web Page; ComponentLink3URL: http://www.national.com/pf/DS/DS8923A.html; ComponentLink4Description: M16A Package Page; ComponentLink4URL: http://www.national.com/packaging/folders/m16a.html
footprint M16A_N (SOIC, 16-Leads, Body 9.9x3.9mm, Pitch 1.27mm, IPC Medium Density)
footprint M16A_L (SOIC, 16-Leads, Body 9.9x3.9mm, Pitch 1.27mm, IPC High Density)
footprint M16A_M (SOIC, 16-Leads, Body 9.9x3.9mm, Pitch 1.27mm, IPC Low Density)
pins: 1 RO1 (hiz), 2 DI1 (in), 3 VCC (power), 4 ~{EN}1 (in), 5 ~{EN}2 (in), 6 GND (power), 7 DI2 (in), 8 RO2 (hiz), 9 RI2+ (in), 10 RI2- (in), 11 DO2 (hiz), 12 ~{DO}2 (hiz), 13 ~{DO}1 (hiz), 14 DO1 (hiz), 15 RI1- (in), 16 RI1+ (in)

## DS8923AN
designator U?
Tri-State RS-422 Dual Differential Line Driver and Receiver Pairs, 16-pin MDIP; PartNumber: DS8923AN; Manufacturer: National Semiconductor; PackageTopMarking: NSUZXYYTTE#*DS8923AN; PowerWise: N; CompType: Interface IC; High-Reliability: Y; DatasheetVersion: Jul-2004; PackageVersion: revG, May-2006; PackageReference: N16E; PackageDescription: MDIP, .750 x .250 x .130in, 16 Lead, .100in Pitch; RoHS: N; PinCount: 16; Code_JEDEC: MS-001-BB; ComponentLink1Description: Manufacturer URL; ComponentLink1URL: http://www.national.com/; ComponentLink2Description: DS8923A Datasheet; ComponentLink2URL: http://www.national.com/ds/DS/DS8923A.pdf; ComponentLink3Description: DS8923A Web Page; ComponentLink3URL: http://www.national.com/pf/DS/DS8923A.html; ComponentLink4Description: N16E Package Page; ComponentLink4URL: http://www.national.com/packaging/folders/n16e.html
footprint N16E (DIP, 16-Leads, Row Spacing 7.62mm, Pitch 2.54mm, Body 19.3x6.35mm)
pins: 1 RO1 (hiz), 2 DI1 (in), 3 VCC (power), 4 ~{DEN} (in), 5 ~{REN} (in), 6 GND (power), 7 DI2 (in), 8 RO2 (hiz), 9 RI2+ (in), 10 RI2- (in), 11 DO2 (hiz), 12 ~{DO}2 (hiz), 13 ~{DO}1 (hiz), 14 DO1 (hiz), 15 RI1- (in), 16 RI1+ (in)

## DS8923AN/NOPB
designator U?
Tri-State RS-422 Dual Differential Line Drivers and Receiver Pair, 16-pin MDIP, Pb-Free; PartNumber: DS8923AN/NOPB; Manufacturer: National Semiconductor; PackageTopMarking: NSUZXYYTTE#*DS8923AN; PowerWise: N; CompType: Interface IC; High-Reliability: Y; DatasheetVersion: Jul-2004; PackageVersion: revG, May-2006; PackageReference: N16E; PackageDescription: MDIP, .750 x .250 x .130in, 16 Lead, .100in Pitch; RoHS: Y; PinCount: 16; Code_JEDEC: MS-001-BB; ComponentLink1Description: Manufacturer URL; ComponentLink1URL: http://www.national.com/; ComponentLink2Description: DS8923A Datasheet; ComponentLink2URL: http://www.national.com/ds/DS/DS8923A.pdf; ComponentLink3Description: DS8923A Web Page; ComponentLink3URL: http://www.national.com/pf/DS/DS8923A.html; ComponentLink4Description: N16E Package Page; ComponentLink4URL: http://www.national.com/packaging/folders/n16e.html
footprint N16E (DIP, 16-Leads, Row Spacing 7.62mm, Pitch 2.54mm, Body 19.3x6.35mm)
pins: 1 RO1 (hiz), 2 DI1 (in), 3 VCC (power), 4 ~{DEN} (in), 5 ~{REN} (in), 6 GND (power), 7 DI2 (in), 8 RO2 (hiz), 9 RI2+ (in), 10 RI2- (in), 11 DO2 (hiz), 12 ~{DO}2 (hiz), 13 ~{DO}1 (hiz), 14 DO1 (hiz), 15 RI1- (in), 16 RI1+ (in)

## DS9637ACM
designator U?
Dual Differential Line Receiver, 8-pin Narrow SOIC; PartNumber: DS9637ACM; Manufacturer: National Semiconductor; PackageTopMarking: NSZXTT*DS963*7ACM; PowerWise: N; CompType: Interface IC; High-Reliability: Y; DatasheetVersion: Dec-2007; PackageVersion: revM, May-2009; PackageReference: M08A; PackageDescription: SOIC Narrow, 4.9 x 3.9 x 1.45mm, 8 Lead, 1.27mm Pitch; RoHS: N; PinCount: 8; Code_JEDEC: MS-012-AA; Code_IPC: SOIC127P600-8; ComponentLink1Description: Manufacturer URL; ComponentLink1URL: http://www.national.com/; ComponentLink2Description: DS9637A Datasheet; ComponentLink2URL: http://www.national.com/ds/DS/DS9637A.pdf; ComponentLink3Description: DS9637A Web Page; ComponentLink3URL: http://www.national.com/pf/DS/DS9637A.html; ComponentLink4Description: M08A Package Page; ComponentLink4URL: http://www.national.com/packaging/folders/m08a.html
footprint M08A_N (SOIC, 8-Leads, Body 4.9x3.9mm, Pitch 1.27mm, IPC Medium Density)
footprint M08A_L (SOIC, 8-Leads, Body 4.9x3.9mm, Pitch 1.27mm, IPC High Density)
footprint M08A_M (SOIC, 8-Leads, Body 4.9x3.9mm, Pitch 1.27mm, IPC Low Density)
pins: 1 VCC (power), 2 OUT A (out), 3 OUT B (out), 4 GND (power), 5 IN B- (in), 6 IN B+ (in), 7 IN A- (in), 8 IN A+ (in)